# Altium schematic symbol library LTC.SchLib: 2 symbols
Pins are listed as number, name and electrical type; pins without a type are passive.

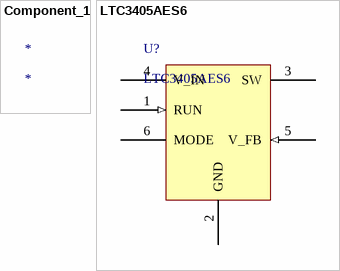
[diagram p0: symbols Component_1 to LTC3405AES6]

## Component_1
designator *

## LTC3405AES6
designator U?
Manufacturer: Analog Devices; Manufacturer Part Number: LTC3405AES6
footprint SOT-23-6
pins: 1 RUN (in), 2 GND (power), 3 SW (power), 4 V_IN (power), 5 V_FB (in), 6 MODE